# Altium schematic symbol library Schlib_BMG_Plus.SchLib: 1 symbol
Pins are listed as number, name and electrical type; pins without a type are passive.

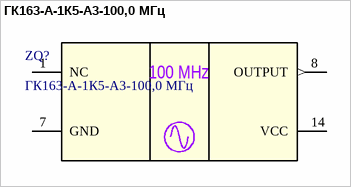
[diagram p0: symbol ГК163-А-1К5-А3-100,0 МГц]

## ГК163-А-1К5-А3-100,0 МГц
designator ZQ?
100 MHz clock oscillator; Manufacturer: ООО "БМГ ПЛЮС"; Part Number: ГК163-А-1К5-А3-100,0 МГц
footprint GK163
pins: 1 NC (hiz), 7 GND (power), 8 OUTPUT (out), 14 VCC (power)
text: 100 MHz